# EAGLE library part XC3S1600EFG400 (library xilinx_spartan3_virtex4_and_5)
Xilinx FPGA
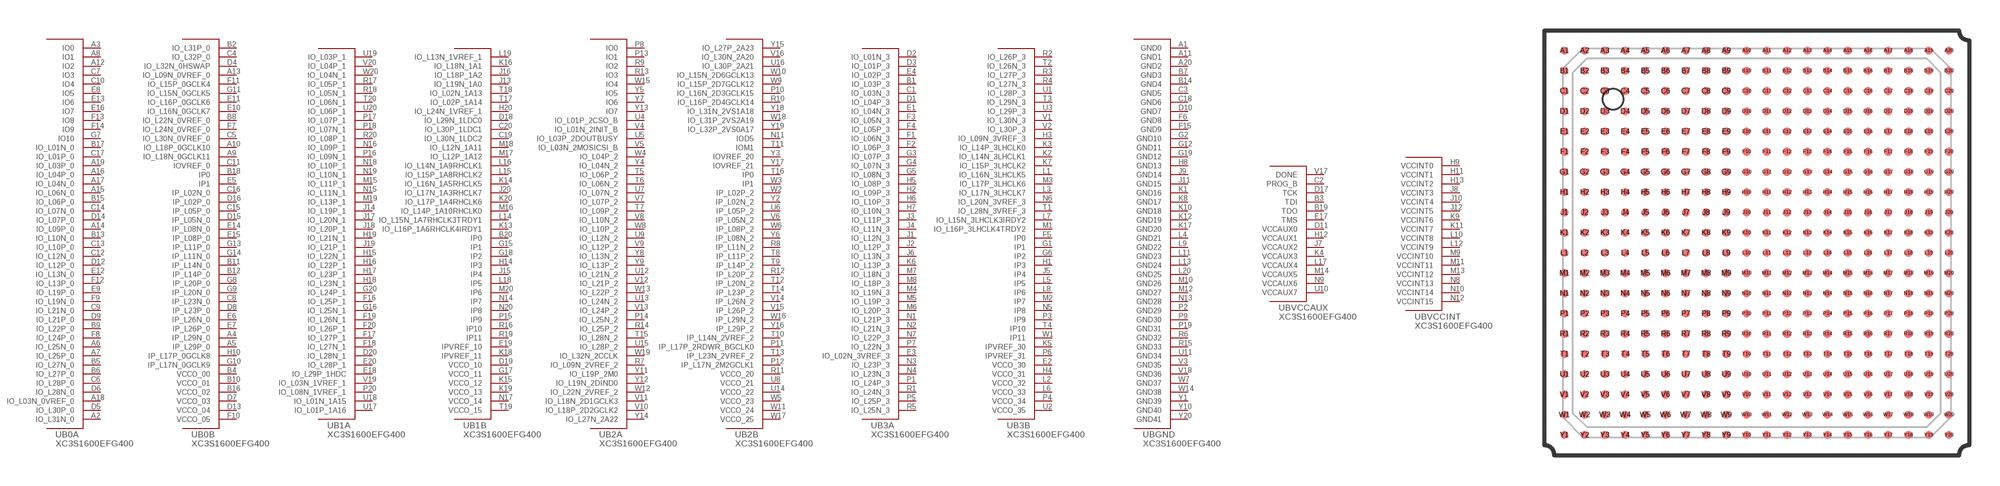
[diagram p59: symbol with the pads of FG400; footprint FG400]

Designator prefix U; gates B0A=XC3S1600EFG400_0A B0B=XC3S1600EFG400_0B B1A=XC3S1600EFG400_1A B1B=XC3S1600EFG400_1B B2A=XC3S1600EFG400_2A B2B=XC3S1600EFG400_2B B3A=XC3S1600EFG400_3A B3B=XC3S1600EFG400_3B BGND=XC3S1600EFG400_GND BVCCAUX=XC3S1600EFG400_VCCAUX BVCCINT=XC3S1600EFG400_VCCINT

## XC3S1600EFG400  [FG400]
A1  BGND:GND0  pas
A2  B0A:IO_L31N_0
A3  B0A:IO0
A4  B0B:IP_L29N_0
A5  B0B:IP_L29P_0
A6  B0A:IO_L25N_0
A7  B0A:IO_L25P_0
A8  B0A:IO1
A9  B0B:IO_L18N_0GCLK11
A10  B0B:IO_L18P_0GCLK10
A11  BGND:GND1  pas
A12  B0A:IO2
A13  B0B:IO_L09N_0VREF_0
A14  B0A:IO_L09P_0
A15  B0A:IO_L06N_0
A16  B0A:IO_L04P_0
A17  B0A:IO_L04N_0
A18  B0A:IO_L03N_0VREF_0
A19  B0A:IO_L03P_0
A20  BGND:GND2  pas
B1  B3A:IO_L03P_3
B2  B0B:IO_L31P_0
B3  BVCCAUX:TDI
B4  B0B:VCCO_00  pas
B5  B0A:IO_L27N_0
B6  B0A:IO_L27P_0
B7  BGND:GND3  pas
B8  B0B:IO_L22N_0VREF_0
B9  B0A:IO_L22P_0
B10  B0B:VCCO_01  pas
B11  B0B:IP_L14N_0
B12  B0B:IP_L14P_0
B13  B0A:IO_L10N_0
B14  BGND:GND4  pas
B15  B0A:IO_L06P_0
B16  B0B:VCCO_02  pas
B17  B0A:IO_L01N_0
B18  B0B:IP0
B19  BVCCAUX:TDO
B20  B1B:IP0
C1  B3A:IO_L03N_3
C2  BVCCAUX:PROG_B
C3  BGND:GND5  pas
C4  B0B:IO_L32P_0
C5  B0B:IO_L30N_0VREF_0
C6  B0A:IO_L28P_0
C7  B0A:IO3
C8  B0B:IP_L23N_0
C9  B0A:IO_L21N_0
C10  B0A:IO4
C11  B0B:IOVREF_0
C12  B0A:IO_L12N_0
C13  B0A:IO_L10P_0
C14  B0A:IO_L07N_0
C15  B0B:IP_L05P_0
C16  B0B:IP_L02N_0
C17  B0A:IO_L01P_0
C18  BGND:GND6  pas
C19  B1B:IO_L30N_1LDC2
C20  B1B:IO_L30P_1LDC1
D1  B3A:IO_L04P_3
D2  B3A:IO_L01N_3
D3  B3A:IO_L01P_3
D4  B0B:IO_L32N_0HSWAP
D5  B0A:IO_L30P_0
D6  B0A:IO_L28N_0
D7  B0B:VCCO_03  pas
D8  B0B:IP_L23P_0
D9  B0A:IO_L21P_0
D10  BGND:GND7  pas
D11  BVCCAUX:VCCAUX0  pas
D12  B0A:IO_L12P_0
D13  B0B:VCCO_04  pas
D14  B0A:IO_L07P_0
D15  B0B:IP_L05N_0
D16  B0B:IP_L02P_0
D17  BVCCAUX:TCK
D18  B1B:IO_L29N_1LDC0
D19  B1B:VCCO_10  pas
D20  B1A:IO_L28N_1
E1  B3A:IO_L04N_3
E2  B3B:VCCO_30  pas
E3  B3A:IO_L02N_3VREF_3
E4  B3A:IO_L02P_3
E5  B0B:IP1
E6  B0B:IP_L26N_0
E7  B0B:IP_L26P_0
E8  B0A:IO5
E9  B0A:IO_L19P_0
E10  B0B:IO_L16N_0GCLK7
E11  B0B:IO_L16P_0GCLK6
E12  B0A:IO_L13N_0
E13  B0A:IO6
E14  B0B:IP_L08N_0
E15  B0B:IP_L08P_0
E16  B0A:IO7
E17  BVCCAUX:TMS
E18  B1A:IO_L29P_1HDC
E19  B1B:IPVREF_10
E20  B1A:IO_L28P_1
F1  B3A:IO_L06N_3
F2  B3A:IO_L06P_3
F3  B3A:IO_L05N_3
F4  B3A:IO_L05P_3
F5  B3B:IP0
F6  BGND:GND8  pas
F7  B0B:IO_L24N_0VREF_0
F8  B0A:IO_L24P_0
F9  B0A:IO_L19N_0
F10  B0B:VCCO_05  pas
F11  B0B:IO_L15P_0GCLK4
F12  B0A:IO_L13P_0
F13  B0A:IO8
F14  B0A:IO9
F15  BGND:GND9  pas
F16  B1A:IO_L25P_1
F17  B1A:IO_L27P_1
F18  B1A:IO_L27N_1
F19  B1A:IO_L26N_1
F20  B1A:IO_L26P_1
G1  B3B:IP1
G2  BGND:GND10  pas
G3  B3A:IO_L07P_3
G4  B3A:IO_L07N_3
G5  B3A:IO_L08N_3
G6  B3B:IP2
G7  B0A:IO10
G8  B0B:IP_L20P_0
G9  B0B:IP_L20N_0
G10  B0B:IP_L17N_0GCLK9
G11  B0B:IO_L15N_0GCLK5
G12  BGND:GND11  pas
G13  B0B:IP_L11P_0
G14  B0B:IP_L11N_0
G15  B1B:IP1
G16  B1A:IO_L25N_1
G17  B1B:VCCO_11  pas
G18  B1B:IP2
G19  BGND:GND12  pas
G20  B1A:IO_L24P_1
H1  B3B:IP3
H2  B3A:IO_L09P_3
H3  B3B:IO_L09N_3VREF_3
H4  B3B:VCCO_31  pas
H5  B3A:IO_L08P_3
H6  B3A:IO_L10P_3
H7  B3A:IO_L10N_3
H8  BGND:GND13  pas
H9  BVCCINT:VCCINT0  pas
H10  B0B:IP_L17P_0GCLK8
H11  BVCCINT:VCCINT1  pas
H12  BVCCAUX:VCCAUX1  pas
H13  BVCCINT:VCCINT2  pas
H14  B1B:IP3
H15  B1A:IO_L22N_1
H16  B1A:IO_L22P_1
H17  B1A:IO_L23P_1
H18  B1A:IO_L23N_1
H19  B1A:IO_L21N_1
H20  B1B:IO_L24N_1VREF_1
J1  B3A:IO_L12N_3
J2  B3A:IO_L12P_3
J3  B3A:IO_L11P_3
J4  B3A:IO_L11N_3
J5  B3B:IP4
J6  B3A:IO_L13N_3
J7  BVCCAUX:VCCAUX2  pas
J8  BVCCINT:VCCINT3  pas
J9  BGND:GND14  pas
J10  BVCCINT:VCCINT4  pas
J11  BGND:GND15  pas
J12  BVCCINT:VCCINT5  pas
J13  B1B:IO_L19N_1A0
J14  B1A:IO_L19P_1
J15  B1B:IP4
J16  B1B:IO_L18P_1A2
J17  B1A:IO_L20N_1
J18  B1A:IO_L20P_1
J19  B1A:IO_L21P_1
J20  B1B:IO_L17N_1A3RHCLK7
K1  BGND:GND16  pas
K2  B3B:IO_L14N_3LHCLK1
K3  B3B:IO_L14P_3LHCLK0
K4  BVCCAUX:VCCAUX3  pas
K5  B3B:IPVREF_30
K6  B3A:IO_L13P_3
K7  B3B:IO_L15P_3LHCLK2
K8  BGND:GND17  pas
K9  BVCCINT:VCCINT6  pas
K10  BGND:GND18  pas
K11  BVCCINT:VCCINT7  pas
K12  BGND:GND19  pas
K13  B1B:IO_L16P_1A6RHCLK4IRDY1
K14  B1B:IO_L16N_1A5RHCLK5
K15  B1B:VCCO_12  pas
K16  B1B:IO_L18N_1A1
K17  BGND:GND20  pas
K18  B1B:IPVREF_11
K19  B1B:VCCO_13  pas
K20  B1B:IO_L17P_1A4RHCLK6
L1  B3B:IO_L16N_3LHCLK5
L2  B3B:VCCO_32  pas
L3  B3B:IO_L17N_3LHCLK7
L4  BGND:GND21  pas
L5  B3B:IP5
L6  B3B:VCCO_33  pas
L7  B3B:IO_L15N_3LHCLK3IRDY2
L8  B3B:IP6
L9  BGND:GND22  pas
L10  BVCCINT:VCCINT8  pas
L11  BGND:GND23  pas
L12  BVCCINT:VCCINT9  pas
L13  BGND:GND24  pas
L14  B1B:IO_L15N_1A7RHCLK3TRDY1
L15  B1B:IO_L15P_1A8RHCLK2
L16  B1B:IO_L14N_1A9RHCLK1
L17  BVCCAUX:VCCAUX4  pas
L18  B1B:IP5
L19  B1B:IO_L13N_1VREF_1
L20  BGND:GND25  pas
M1  B3B:IO_L16P_3LHCLK4TRDY2
M2  B3B:IP7
M3  B3B:IO_L17P_3LHCLK6
M4  B3A:IO_L19N_3
M5  B3A:IO_L19P_3
M6  B3A:IO_L20P_3
M7  B3A:IO_L18N_3
M8  B3A:IO_L18P_3
M9  BVCCINT:VCCINT10  pas
M10  BGND:GND26  pas
M11  BVCCINT:VCCINT11  pas
M12  BGND:GND27  pas
M13  BVCCINT:VCCINT12  pas
M14  BVCCAUX:VCCAUX5  pas
M15  B1A:IO_L11P_1
M16  B1B:IO_L14P_1A10RHCLK0
M17  B1B:IO_L12P_1A12
M18  B1B:IO_L12N_1A11
M19  B1A:IO_L13P_1
M20  B1B:IP6
N1  B3A:IO_L21P_3
N2  B3A:IO_L21N_3
N3  B3A:IO_L23P_3
N4  B3A:IO_L23N_3
N5  B3B:IP8
N6  B3B:IO_L20N_3VREF_3
N7  B3A:IO_L22P_3
N8  BVCCINT:VCCINT13  pas
N9  BVCCAUX:VCCAUX6  pas
N10  BVCCINT:VCCINT14  pas
N11  B2B:IOD5
N12  BVCCINT:VCCINT15  pas
N13  BGND:GND28  pas
N14  B1B:IP7
N15  B1A:IO_L11N_1
N16  B1A:IO_L09P_1
N17  B1B:VCCO_14  pas
N18  B1A:IO_L10P_1
N19  B1A:IO_L10N_1
N20  B1B:IP8
P1  B3A:IO_L24P_3
P2  BGND:GND29  pas
P3  B3B:IP9
P4  B3B:VCCO_34  pas
P5  B3A:IO_L25P_3
P6  B3B:IPVREF_31
P7  B3A:IO_L22N_3
P8  B2A:IO0
P9  BGND:GND30  pas
P10  B2B:IO_L16N_2D3GCLK15
P11  B2B:IP_L17P_2RDWR_BGCLK0
P12  B2B:IP_L17N_2M2GCLK1
P13  B2A:IO1
P14  B2A:IO_L25N_2
P15  B1B:IP9
P16  B1A:IO_L09N_1
P17  B1A:IO_L07P_1
P18  B1A:IO_L07N_1
P19  BGND:GND31  pas
P20  B1A:IO_L08N_1VREF_1
R1  B3A:IO_L24N_3
R2  B3B:IO_L26P_3
R3  B3B:IO_L27P_3
R4  B3B:IO_L27N_3
R5  B3A:IO_L25N_3
R6  BGND:GND32  pas
R7  B2A:IO_L09N_2VREF_2
R8  B2B:IP_L11N_2
R9  B2A:IO2
R10  B2B:IO_L16P_2D4GCLK14
R11  B2B:VCCO_20  pas
R12  B2B:IP_L20P_2
R13  B2A:IO3
R14  B2A:IO_L25P_2
R15  BGND:GND33  pas
R16  B1B:IP10
R17  B1A:IO_L05P_1
R18  B1A:IO_L05N_1
R19  B1B:IP11
R20  B1A:IO_L08P_1
T1  B3B:IO_L28N_3VREF_3
T2  B3B:IO_L26N_3
T3  B3B:IO_L29N_3
T4  B3B:IP10
T5  B2A:IO_L06P_2
T6  B2A:IO_L06N_2
T7  B2A:IO_L09P_2
T8  B2B:IP_L11P_2
T9  B2B:IP_L14P_2
T10  B2B:IP_L14N_2VREF_2
T11  B2B:IOM1
T12  B2B:IP_L20N_2
T13  B2B:IP_L23N_2VREF_2
T14  B2B:IP_L23P_2
T15  B2A:IO_L28N_2
T16  B2B:IP0
T17  B1B:IO_L02P_1A14
T18  B1B:IO_L02N_1A13
T19  B1B:VCCO_15  pas
T20  B1A:IO_L06N_1
U1  B3B:IO_L28P_3
U2  B3B:VCCO_35  pas
U3  B3B:IO_L29P_3
U4  B2A:IO_L01P_2CSO_B
U5  B2A:IO_L03P_2DOUTBUSY
U6  B2B:IP_L05P_2
U7  B2A:IO_L07N_2
U8  B2B:VCCO_21  pas
U9  B2A:IO_L12N_2
U10  BVCCAUX:VCCAUX7  pas
U11  BGND:GND34  pas
U12  B2A:IO_L21N_2
U13  B2A:IO_L24N_2
U14  B2B:VCCO_22  pas
U15  B2A:IO_L28P_2
U16  B2B:IO_L30P_2A21
U17  B1A:IO_L01P_1A16
U18  B1A:IO_L01N_1A15
U19  B1A:IO_L03P_1
U20  B1A:IO_L06P_1
V1  B3B:IO_L30N_3
V2  B3B:IO_L30P_3
V3  BGND:GND35  pas
V4  B2A:IO_L01N_2INIT_B
V5  B2A:IO_L03N_2MOSICSI_B
V6  B2B:IP_L05N_2
V7  B2A:IO_L07P_2
V8  B2A:IO_L10N_2
V9  B2A:IO_L12P_2
V10  B2A:IO_L18P_2D2GCLK2
V11  B2A:IO_L18N_2D1GCLK3
V12  B2A:IO_L21P_2
V13  B2A:IO_L24P_2
V14  B2B:IP_L26N_2
V15  B2B:IP_L26P_2
V16  B2B:IO_L30N_2A20
V17  BVCCAUX:DONE
V18  BGND:GND36  pas
V19  B1A:IO_L03N_1VREF_1
V20  B1A:IO_L04P_1
W1  B3B:IP11
W2  B2B:IP_L02P_2
W3  B2B:IP1
W4  B2A:IO_L04P_2
W5  B2B:VCCO_23  pas
W6  B2B:IP_L08P_2
W7  BGND:GND37  pas
W8  B2A:IO_L10P_2
W9  B2B:IO_L15P_2D7GCLK12
W10  B2B:IO_L15N_2D6GCLK13
W11  B2B:VCCO_24  pas
W12  B2A:IO_L22N_2VREF_2
W13  B2A:IO_L22P_2
W14  BGND:GND38  pas
W15  B2A:IO4
W16  B2B:IP_L29N_2
W17  B2B:VCCO_25  pas
W18  B2B:IO_L31P_2VS2A19
W19  B2A:IO_L32N_2CCLK
W20  B1A:IO_L04N_1
Y1  BGND:GND39  pas
Y2  B2B:IP_L02N_2
Y3  B2B:IOVREF_20
Y4  B2A:IO_L04N_2
Y5  B2A:IO5
Y6  B2B:IP_L08N_2
Y7  B2A:IO6
Y8  B2A:IO_L13N_2
Y9  B2A:IO_L13P_2
Y10  BGND:GND40  pas
Y11  B2A:IO_L19P_2M0
Y12  B2A:IO_L19N_2DIND0
Y13  B2A:IO7
Y14  B2A:IO_L27N_2A22
Y15  B2B:IO_L27P_2A23
Y16  B2B:IP_L29P_2
Y17  B2B:IOVREF_21
Y18  B2B:IO_L31N_2VS1A18
Y19  B2B:IO_L32P_2VS0A17
Y20  BGND:GND41  pas

## Footprint FG400 (pad centres in mm)
smd 0.4 x 0.4: A1 -9.5,9.5; A2 -8.5,9.5; A3 -7.5,9.5; A4 -6.5,9.5; A5 -5.5,9.5; A6 -4.5,9.5; A7 -3.5,9.5; A8 -2.5,9.5; A9 -1.5,9.5; A10 -0.5,9.5; A11 0.5,9.5; A12 1.5,9.5; A13 2.5,9.5; A14 3.5,9.5; A15 4.5,9.5; A16 5.5,9.5; A17 6.5,9.5; A18 7.5,9.5; A19 8.5,9.5; A20 9.5,9.5; B1 -9.5,8.5; B2 -8.5,8.5; B3 -7.5,8.5; B4 -6.5,8.5; B5 -5.5,8.5; B6 -4.5,8.5; B7 -3.5,8.5; B8 -2.5,8.5; B9 -1.5,8.5; B10 -0.5,8.5; B11 0.5,8.5; B12 1.5,8.5; B13 2.5,8.5; B14 3.5,8.5; B15 4.5,8.5; B16 5.5,8.5; B17 6.5,8.5; B18 7.5,8.5; B19 8.5,8.5; B20 9.5,8.5; C1 -9.5,7.5; C2 -8.5,7.5; C3 -7.5,7.5; C4 -6.5,7.5; C5 -5.5,7.5; C6 -4.5,7.5; C7 -3.5,7.5; C8 -2.5,7.5; C9 -1.5,7.5; C10 -0.5,7.5; C11 0.5,7.5; C12 1.5,7.5; C13 2.5,7.5; C14 3.5,7.5; C15 4.5,7.5; C16 5.5,7.5; C17 6.5,7.5; C18 7.5,7.5; C19 8.5,7.5; C20 9.5,7.5; D1 -9.5,6.5; D2 -8.5,6.5; D3 -7.5,6.5; D4 -6.5,6.5; D5 -5.5,6.5; D6 -4.5,6.5; D7 -3.5,6.5; D8 -2.5,6.5; D9 -1.5,6.5; D10 -0.5,6.5; D11 0.5,6.5; D12 1.5,6.5; D13 2.5,6.5; D14 3.5,6.5; D15 4.5,6.5; D16 5.5,6.5; D17 6.5,6.5; D18 7.5,6.5; D19 8.5,6.5; D20 9.5,6.5; E1 -9.5,5.5; E2 -8.5,5.5; E3 -7.5,5.5; E4 -6.5,5.5; E5 -5.5,5.5; E6 -4.5,5.5; E7 -3.5,5.5; E8 -2.5,5.5; E9 -1.5,5.5; E10 -0.5,5.5; E11 0.5,5.5; E12 1.5,5.5; E13 2.5,5.5; E14 3.5,5.5; E15 4.5,5.5; E16 5.5,5.5; E17 6.5,5.5; E18 7.5,5.5; E19 8.5,5.5; E20 9.5,5.5; F1 -9.5,4.5; F2 -8.5,4.5; F3 -7.5,4.5; F4 -6.5,4.5; F5 -5.5,4.5; F6 -4.5,4.5; F7 -3.5,4.5; F8 -2.5,4.5; F9 -1.5,4.5; F10 -0.5,4.5; F11 0.5,4.5; F12 1.5,4.5; F13 2.5,4.5; F14 3.5,4.5; F15 4.5,4.5; F16 5.5,4.5; F17 6.5,4.5; F18 7.5,4.5; F19 8.5,4.5; F20 9.5,4.5; G1 -9.5,3.5; G2 -8.5,3.5; G3 -7.5,3.5; G4 -6.5,3.5; G5 -5.5,3.5; G6 -4.5,3.5; G7 -3.5,3.5; G8 -2.5,3.5; G9 -1.5,3.5; G10 -0.5,3.5; G11 0.5,3.5; G12 1.5,3.5; G13 2.5,3.5; G14 3.5,3.5; G15 4.5,3.5; G16 5.5,3.5; G17 6.5,3.5; G18 7.5,3.5; G19 8.5,3.5; G20 9.5,3.5; H1 -9.5,2.5; H2 -8.5,2.5; H3 -7.5,2.5; H4 -6.5,2.5; H5 -5.5,2.5; H6 -4.5,2.5; H7 -3.5,2.5; H8 -2.5,2.5; H9 -1.5,2.5; H10 -0.5,2.5; H11 0.5,2.5; H12 1.5,2.5; H13 2.5,2.5; H14 3.5,2.5; H15 4.5,2.5; H16 5.5,2.5; H17 6.5,2.5; H18 7.5,2.5; H19 8.5,2.5; H20 9.5,2.5; J1 -9.5,1.5; J2 -8.5,1.5; J3 -7.5,1.5; J4 -6.5,1.5; J5 -5.5,1.5; J6 -4.5,1.5; J7 -3.5,1.5; J8 -2.5,1.5; J9 -1.5,1.5; J10 -0.5,1.5; J11 0.5,1.5; J12 1.5,1.5; J13 2.5,1.5; J14 3.5,1.5; J15 4.5,1.5; J16 5.5,1.5; J17 6.5,1.5; J18 7.5,1.5; J19 8.5,1.5; J20 9.5,1.5; K1 -9.5,0.5; K2 -8.5,0.5; K3 -7.5,0.5; K4 -6.5,0.5; K5 -5.5,0.5; K6 -4.5,0.5; K7 -3.5,0.5; K8 -2.5,0.5; K9 -1.5,0.5; K10 -0.5,0.5; K11 0.5,0.5; K12 1.5,0.5; K13 2.5,0.5; K14 3.5,0.5; K15 4.5,0.5; K16 5.5,0.5; K17 6.5,0.5; K18 7.5,0.5; K19 8.5,0.5; K20 9.5,0.5; L1 -9.5,-0.5; L2 -8.5,-0.5; L3 -7.5,-0.5; L4 -6.5,-0.5; L5 -5.5,-0.5; L6 -4.5,-0.5; L7 -3.5,-0.5; L8 -2.5,-0.5; L9 -1.5,-0.5; L10 -0.5,-0.5; L11 0.5,-0.5; L12 1.5,-0.5; L13 2.5,-0.5; L14 3.5,-0.5; L15 4.5,-0.5; L16 5.5,-0.5; L17 6.5,-0.5; L18 7.5,-0.5; L19 8.5,-0.5; L20 9.5,-0.5; M1 -9.5,-1.5; M2 -8.5,-1.5; M3 -7.5,-1.5; M4 -6.5,-1.5; M5 -5.5,-1.5; M6 -4.5,-1.5; M7 -3.5,-1.5; M8 -2.5,-1.5; M9 -1.5,-1.5; M10 -0.5,-1.5; M11 0.5,-1.5; M12 1.5,-1.5; M13 2.5,-1.5; M14 3.5,-1.5; M15 4.5,-1.5; M16 5.5,-1.5; M17 6.5,-1.5; M18 7.5,-1.5; M19 8.5,-1.5; M20 9.5,-1.5; N1 -9.5,-2.5; N2 -8.5,-2.5; N3 -7.5,-2.5; N4 -6.5,-2.5; N5 -5.5,-2.5; N6 -4.5,-2.5; N7 -3.5,-2.5; N8 -2.5,-2.5; N9 -1.5,-2.5; N10 -0.5,-2.5; N11 0.5,-2.5; N12 1.5,-2.5; N13 2.5,-2.5; N14 3.5,-2.5; N15 4.5,-2.5; N16 5.5,-2.5; N17 6.5,-2.5; N18 7.5,-2.5; N19 8.5,-2.5; N20 9.5,-2.5; P1 -9.5,-3.5; P2 -8.5,-3.5; P3 -7.5,-3.5; P4 -6.5,-3.5; P5 -5.5,-3.5; P6 -4.5,-3.5; P7 -3.5,-3.5; P8 -2.5,-3.5; P9 -1.5,-3.5; P10 -0.5,-3.5; P11 0.5,-3.5; P12 1.5,-3.5; P13 2.5,-3.5; P14 3.5,-3.5; P15 4.5,-3.5; P16 5.5,-3.5; P17 6.5,-3.5; P18 7.5,-3.5; P19 8.5,-3.5; P20 9.5,-3.5; R1 -9.5,-4.5; R2 -8.5,-4.5; R3 -7.5,-4.5; R4 -6.5,-4.5; R5 -5.5,-4.5; R6 -4.5,-4.5; R7 -3.5,-4.5; R8 -2.5,-4.5; R9 -1.5,-4.5; R10 -0.5,-4.5; R11 0.5,-4.5; R12 1.5,-4.5; R13 2.5,-4.5; R14 3.5,-4.5; R15 4.5,-4.5; R16 5.5,-4.5; R17 6.5,-4.5; R18 7.5,-4.5; R19 8.5,-4.5; R20 9.5,-4.5; T1 -9.5,-5.5; T2 -8.5,-5.5; T3 -7.5,-5.5; T4 -6.5,-5.5; T5 -5.5,-5.5; T6 -4.5,-5.5; T7 -3.5,-5.5; T8 -2.5,-5.5; T9 -1.5,-5.5; T10 -0.5,-5.5; T11 0.5,-5.5; T12 1.5,-5.5; T13 2.5,-5.5; T14 3.5,-5.5; T15 4.5,-5.5; T16 5.5,-5.5; T17 6.5,-5.5; T18 7.5,-5.5; T19 8.5,-5.5; T20 9.5,-5.5; U1 -9.5,-6.5; U2 -8.5,-6.5; U3 -7.5,-6.5; U4 -6.5,-6.5; U5 -5.5,-6.5; U6 -4.5,-6.5; U7 -3.5,-6.5; U8 -2.5,-6.5; U9 -1.5,-6.5; U10 -0.5,-6.5; U11 0.5,-6.5; U12 1.5,-6.5; U13 2.5,-6.5; U14 3.5,-6.5; U15 4.5,-6.5; U16 5.5,-6.5; U17 6.5,-6.5; U18 7.5,-6.5; U19 8.5,-6.5; U20 9.5,-6.5; V1 -9.5,-7.5; V2 -8.5,-7.5; V3 -7.5,-7.5; V4 -6.5,-7.5; V5 -5.5,-7.5; V6 -4.5,-7.5; V7 -3.5,-7.5; V8 -2.5,-7.5; V9 -1.5,-7.5; V10 -0.5,-7.5; V11 0.5,-7.5; V12 1.5,-7.5; V13 2.5,-7.5; V14 3.5,-7.5; V15 4.5,-7.5; V16 5.5,-7.5; V17 6.5,-7.5; V18 7.5,-7.5; V19 8.5,-7.5; V20 9.5,-7.5; W1 -9.5,-8.5; W2 -8.5,-8.5; W3 -7.5,-8.5; W4 -6.5,-8.5; W5 -5.5,-8.5; W6 -4.5,-8.5; W7 -3.5,-8.5; W8 -2.5,-8.5; W9 -1.5,-8.5; W10 -0.5,-8.5; W11 0.5,-8.5; W12 1.5,-8.5; W13 2.5,-8.5; W14 3.5,-8.5; W15 4.5,-8.5; W16 5.5,-8.5; W17 6.5,-8.5; W18 7.5,-8.5; W19 8.5,-8.5; W20 9.5,-8.5; Y1 -9.5,-9.5; Y2 -8.5,-9.5; Y3 -7.5,-9.5; Y4 -6.5,-9.5; Y5 -5.5,-9.5; Y6 -4.5,-9.5; Y7 -3.5,-9.5; Y8 -2.5,-9.5; Y9 -1.5,-9.5; Y10 -0.5,-9.5; Y11 0.5,-9.5; Y12 1.5,-9.5; Y13 2.5,-9.5; Y14 3.5,-9.5; Y15 4.5,-9.5; Y16 5.5,-9.5; Y17 6.5,-9.5; Y18 7.5,-9.5; Y19 8.5,-9.5; Y20 9.5,-9.5